# Altium integrated library 471001264143.IntLib: 1 symbol
Pins are listed as number, name and electrical type; pins without a type are passive.

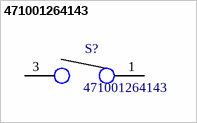
[diagram p0: symbol 471001264143]

## 471001264143
designator S?
SnapEDA_Link: https://www.snapeda.com/parts/471001264143/Wurth%20Electronics%20Inc./view-part/3077764/?ref=snap; Value: *
footprint *471001264143(0,75-1,25)
pins: 1, 3 2